# Altium footprint library Modbus.PcbLib: 19 footprints (part 1 of 2)
Each footprint in its own frame and in the unit in brackets; x right, y up, seen from the top. Pads: shape width x height; smd on the part's side, far side on the other; paste and mask are expansions set on the pad; w line width, h text height; cw(c..) or ccw(c..) is an arc to the next point about the centre after c.
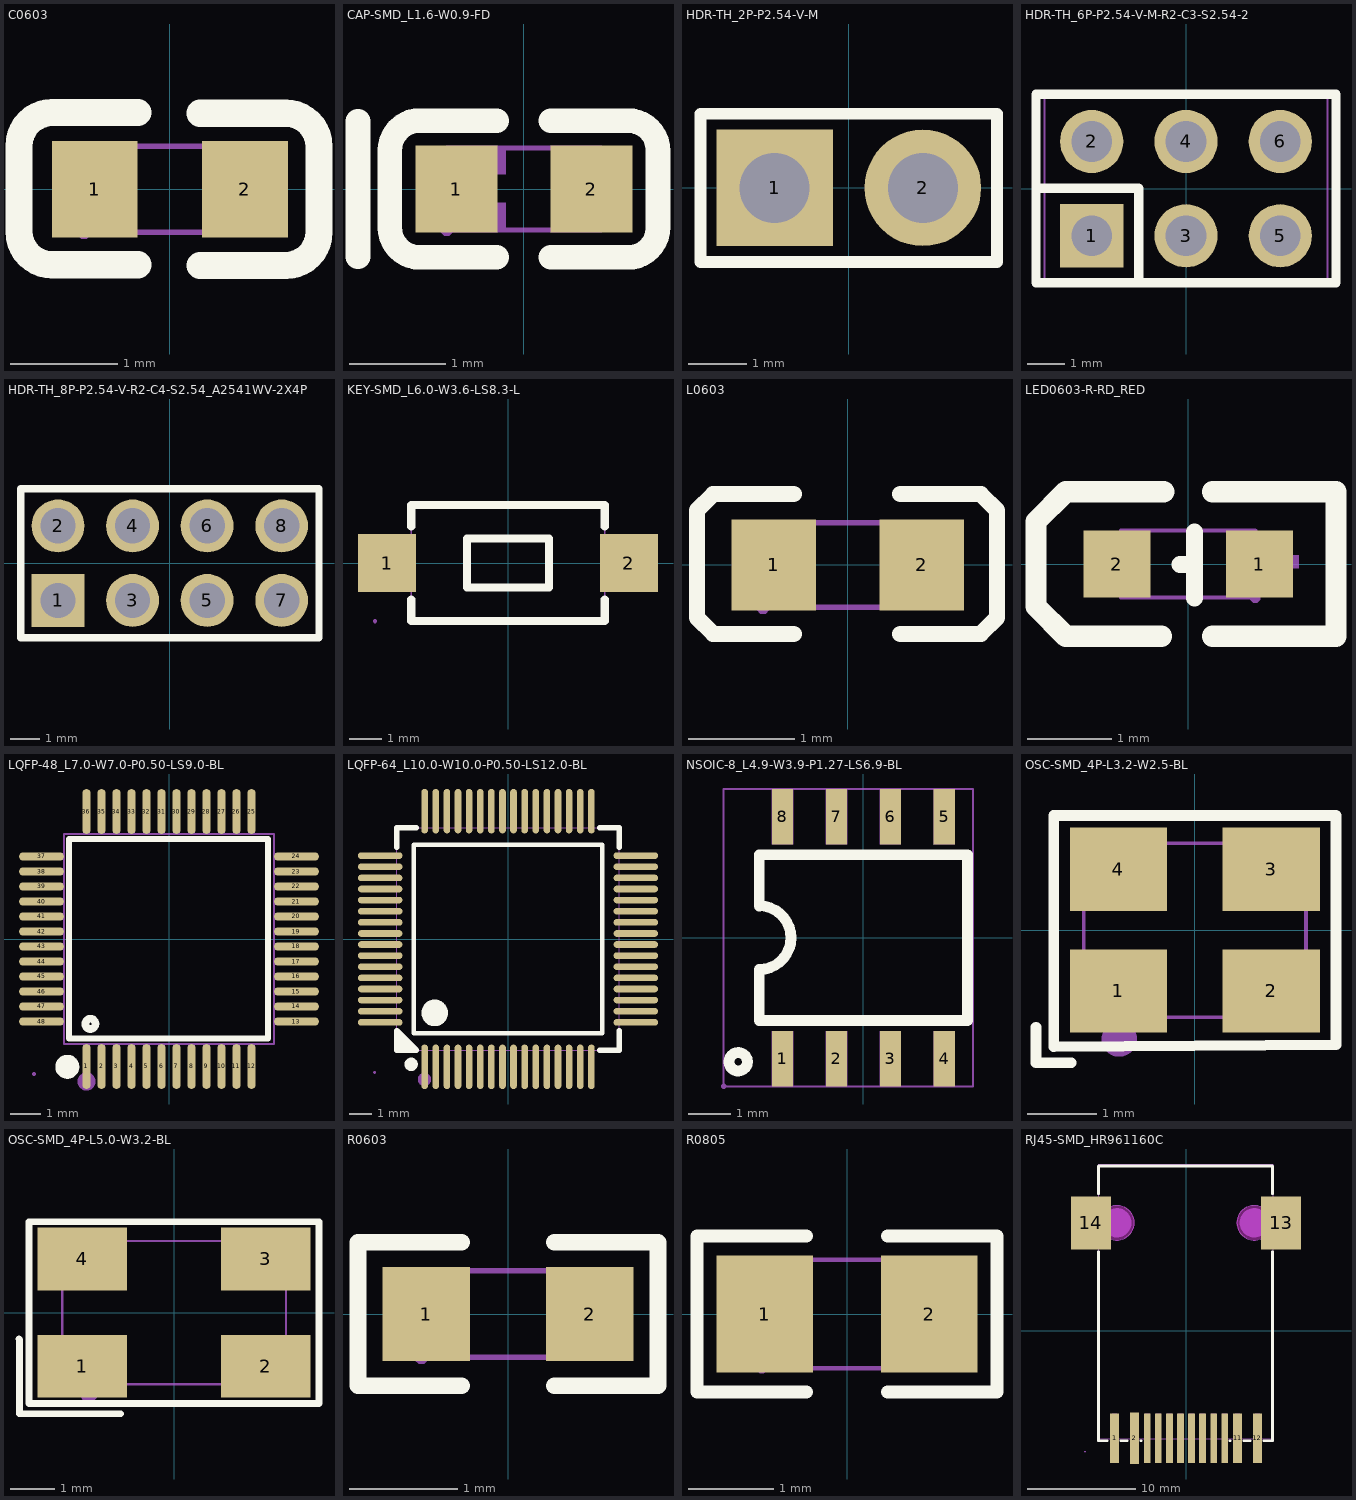
[diagram p0: the footprints below, top view; thin cyan lines are the x and y axes]

## C0603 [mm] "电容"
pads (2):
  rect 0.8x0.9 smd mask+0.051: 1(-0.7,0) 2(0.7,0)
Top Overlay:
  lines w0.254: -0.296,-0.704 -1.096,-0.704 cw(c-1.096,-0.394) -1.406,-0.394 -1.405,0.406 cw(c-1.096,0.406) -1.096,0.715 -0.296,0.715 ; 0.28,-0.71 1.08,-0.71 ccw(c1.08,-0.4) 1.39,-0.4 1.39,0.4 ccw(c1.08,0.4) 1.08,0.71 0.28,0.71
Mechanical 15:
  region: 0.8,-0.4 0.8,0.4 0.5,0.4 0.5,-0.4
  region: -0.8,-0.4 -0.8,0.4 -0.5,0.4 -0.5,-0.4
  region: -0.74,-0.4 -0.74,-0.375 -0.775,-0.34 -0.825,-0.34 -0.86,-0.375 -0.86,-0.4 -0.86,-0.425 -0.825,-0.46 -0.775,-0.46 -0.74,-0.425
  lines w0.051: -0.8,-0.4 0.8,-0.4 0.8,0.4 -0.8,0.4 -0.8,-0.4

## CAP-SMD_L1.6-W0.9-FD [mm] "钽电容"
pads (2):
  rect 0.85x0.9 smd mask+0.051: 1(-0.7,0) 2(0.7,0)
Top Overlay:
  lines w0.254: -1.72,-0.7 -1.72,0.7 ; -0.28,-0.71 -1.08,-0.71 cw(c-1.08,-0.4) -1.39,-0.4 -1.39,0.4 cw(c-1.08,0.4) -1.08,0.71 -0.28,0.71 ; 0.28,-0.71 1.08,-0.71 ccw(c1.08,-0.4) 1.39,-0.4 1.39,0.4 ccw(c1.08,0.4) 1.08,0.71 0.28,0.71
Mechanical 6:
  region: -1.038,0.119 -0.365,0.119 -0.365,-0.013 -1.038,-0.013 -1.038,0.015
  region: -0.788,-0.345 -0.788,0.328 -0.656,0.328 -0.656,-0.345 -0.684,-0.345
  region: 0.4,0.097 1.073,0.097 1.073,-0.035 0.4,-0.035 0.4,-0.007
  region: -0.31,0.444 -0.19,0.444 -0.19,0.155 -0.31,0.155
  region: -0.31,-0.144 -0.19,-0.144 -0.19,-0.433 -0.31,-0.433
Mechanical 15:
  region: -0.74,-0.425 -0.74,-0.4 -0.775,-0.365 -0.825,-0.365 -0.86,-0.4 -0.86,-0.425 -0.86,-0.45 -0.825,-0.485 -0.775,-0.485 -0.74,-0.45
  region: -0.8,0.275 -0.3,0.275 -0.3,-0.275 -0.8,-0.275
  region: 0.3,0.275 0.8,0.275 0.8,-0.275 0.3,-0.275
  lines w0.051: -0.8,-0.425 -0.8,0.425 0.8,0.425 0.8,-0.425 -0.8,-0.425

## HDR-TH_2P-P2.54-V-M [mm] "排针2p"
pads (2):
  rect 2x2 hole 1.2 mask+0.051: 1(-1.27,0)
  round 2 hole 1.2 mask+0.051: 2(1.27,0)
Top Overlay:
  lines w0.203: -2.54,-1.27 2.54,-1.27 2.54,1.27 -0.635,1.27 -2.54,1.27 -2.54,-1.27
Mechanical 15:
  region: -2.48,-1.25 -2.48,-1.225 -2.515,-1.19 -2.565,-1.19 -2.6,-1.225 -2.6,-1.25 -2.6,-1.275 -2.565,-1.31 -2.515,-1.31 -2.48,-1.275
  region: 0.95,0.32 1.59,0.32 1.59,-0.32 0.95,-0.32
  region: -1.59,0.32 -0.95,0.32 -0.95,-0.32 -1.59,-0.32
  lines w0.051: -2.54,-1.25 -2.54,1.25 2.54,1.25 2.54,-1.25 -2.54,-1.25

## HDR-TH_6P-P2.54-V-M-R2-C3-S2.54-2 [mm] "2.54*6"
pads (6):
  rect 1.7x1.7 hole 1.1 mask+0.051: 1(-2.54,-1.27)
  round 1.7 hole 1.1 mask+0.051: 2(-2.54,1.27) 3(0,-1.27) 4(0,1.27) 5(2.54,-1.27) 6(2.54,1.27)
Top Overlay:
  lines w0.254: -4.04,0.007 -1.27,0.007 -1.27,-2.54 ; -4.04,-2.54 -4.04,2.54 4.04,2.54 4.04,-2.54 -4.04,-2.54
Mechanical 15:
  region: 2.22,-0.95 2.86,-0.95 2.86,-1.59 2.22,-1.59
  region: 2.22,1.59 2.86,1.59 2.86,0.95 2.22,0.95
  region: -0.32,1.59 0.32,1.59 0.32,0.95 -0.32,0.95
  region: -0.32,-0.95 0.32,-0.95 0.32,-1.59 -0.32,-1.59
  region: -2.86,-0.95 -2.22,-0.95 -2.22,-1.59 -2.86,-1.59
  region: -2.86,1.59 -2.22,1.59 -2.22,0.95 -2.86,0.95
  region: -3.75,-2.5 -3.75,-2.475 -3.785,-2.44 -3.835,-2.44 -3.87,-2.475 -3.87,-2.5 -3.87,-2.525 -3.835,-2.56 -3.785,-2.56 -3.75,-2.525
  lines w0.051: -3.81,-2.5 3.81,-2.5 3.81,2.5 -3.81,2.5 -3.81,-2.5

## HDR-TH_8P-P2.54-V-R2-C4-S2.54_A2541WV-2X4P [mm] "2.54-2*4"
pads (8):
  rect 1.8x1.8 hole 1.2 mask+0.051: 1(-3.81,-1.27)
  round 1.8 hole 1.2 mask+0.051: 2(-3.81,1.27) 3(-1.27,-1.27) 4(-1.27,1.27) 5(1.27,-1.27) 6(1.27,1.27) 7(3.81,-1.27) 8(3.81,1.27)
Top Overlay:
  lines w0.254: -5.08,-2.54 -5.08,2.54 5.08,2.54 5.08,-2.54 -5.08,-2.54
Mechanical 15:
  region: -4.13,-0.95 -3.49,-0.95 -3.49,-1.59 -4.13,-1.59
  region: -4.13,1.59 -3.49,1.59 -3.49,0.95 -4.13,0.95
  region: -1.59,-0.95 -0.95,-0.95 -0.95,-1.59 -1.59,-1.59
  region: -1.59,1.59 -0.95,1.59 -0.95,0.95 -1.59,0.95
  region: 0.95,-0.95 1.59,-0.95 1.59,-1.59 0.95,-1.59
  region: 0.95,1.59 1.59,1.59 1.59,0.95 0.95,0.95
  region: 3.49,-0.95 4.13,-0.95 4.13,-1.59 3.49,-1.59
  region: 3.49,1.59 4.13,1.59 4.13,0.95 3.49,0.95
  region: -5.02,-2.54 -5.02,-2.515 -5.055,-2.48 -5.105,-2.48 -5.14,-2.515 -5.14,-2.54 -5.14,-2.565 -5.105,-2.6 -5.055,-2.6 -5.02,-2.565
  lines w0.051: -5.08,-2.54 5.08,-2.54 5.08,2.54 -5.08,2.54 -5.08,-2.54

## KEY-SMD_L6.0-W3.6-LS8.3-L [mm] "轻触开关"
pads (2):
  rect 1.8x1.8 smd mask+0.051: 1(-3.75,0) 2(3.75,0)
Top Overlay:
  lines w0.254: -3,-1.131 -3,-1.8 3,-1.8 3,-1.131 ; -3,1.131 -3,1.8 3,1.8 3,1.131 ; -1.27,-0.762 1.27,-0.762 1.27,0.762 -1.27,0.762 -1.27,-0.762
Mechanical 15:
  region: -4.065,-1.8 -4.065,-1.775 -4.1,-1.74 -4.15,-1.74 -4.185,-1.775 -4.185,-1.8 -4.185,-1.825 -4.15,-1.86 -4.1,-1.86 -4.065,-1.825
  region: 2.99,-0.5 2.99,0.5 3.735,0.5 3.735,-0.5
  region: 3.725,-0.5 3.725,0.5 4.125,0.5 4.125,-0.5
  region: -3.735,-0.5 -3.735,0.5 -2.99,0.5 -2.99,-0.5
  region: -4.125,-0.5 -4.125,0.5 -3.725,0.5 -3.725,-0.5
  lines w0.051: -3,-1.8 -3,1.8 3,1.8 3,-1.8 -3,-1.8

## L0603 [mm] "磁珠"
pads (2):
  rect 0.8x0.864 smd mask+0.051: 1(-0.7,0) 2(0.7,0)
Top Overlay:
  lines w0.152: -0.51,-0.651 -1.272,-0.651 -1.424,-0.499 -1.424,0.517 -1.272,0.67 -0.51,0.67 ; 0.496,-0.651 1.258,-0.651 1.411,-0.499 1.411,0.517 1.258,0.67 0.496,0.67
Top Paste:
  region: -0.252,0.143 -0.252,-0.134 -0.526,-0.427 -1.029,-0.427 -1.093,-0.363 -1.093,0.373 -1.029,0.437 -0.526,0.437
  region: 0.264,0.154 0.264,-0.122 0.538,-0.416 1.042,-0.416 1.106,-0.352 1.106,0.384 1.042,0.448 0.538,0.448
Mechanical 15:
  region: -0.74,-0.4 -0.74,-0.375 -0.775,-0.34 -0.825,-0.34 -0.86,-0.375 -0.86,-0.4 -0.86,-0.425 -0.825,-0.46 -0.775,-0.46 -0.74,-0.425
  region: 0.8,-0.4 0.5,-0.4 0.5,0.4 0.8,0.4
  region: -0.5,-0.4 -0.8,-0.4 -0.8,0.4 -0.5,0.4
  lines w0.051: -0.8,-0.4 0.8,-0.4 0.8,0.4 -0.8,0.4 -0.8,-0.4

## LED0603-R-RD_RED [mm]
pads (2):
  rect 0.8x0.8 smd mask+0.051: 1(0.851,0) 2(-0.851,0)
Top Overlay:
  lines w0.203: -0.099,-0.008 0.076,-0.008 ; 0.076,-0.406 0.076,0.381
  lines w0.254: -0.318,-0.864 -1.46,-0.864 -1.816,-0.508 -1.816,0.508 -1.46,0.864 -0.292,0.864 ; 0.292,-0.864 1.765,-0.864 1.765,0.864 0.292,0.864
Mechanical 6:
  region: 0.66,0.102 1.321,0.102 1.321,-0.051 0.66,-0.051
  region: 0.936,-0.275 0.936,0.385 1.088,0.385 1.088,-0.275
  region: -1.193,0.05 -0.533,0.05 -0.533,-0.103 -1.193,-0.103
Mechanical 15:
  region: 0.86,-0.4 0.86,-0.375 0.825,-0.34 0.775,-0.34 0.74,-0.375 0.74,-0.4 0.74,-0.425 0.775,-0.46 0.825,-0.46 0.86,-0.425
  region: 0.8,0.4 0.8,-0.4 0.5,-0.4 0.5,0.4
  region: -0.8,-0.4 -0.8,0.4 -0.5,0.4 -0.5,-0.4
  lines w0.051: -0.8,-0.4 0.8,-0.4 0.8,0.4 -0.8,0.4 -0.8,-0.4

## LQFP-48_L7.0-W7.0-P0.50-LS9.0-BL [mm] "W5500-以太网控制芯片"
pads (48):
  oval 0.27x1.5 smd mask+0.05: 1(-2.75,-4.25) 2(-2.25,-4.25) 3(-1.75,-4.25) 4(-1.25,-4.25) 5(-0.75,-4.25) 6(-0.25,-4.25) 7(0.25,-4.25) 8(0.75,-4.25) 9(1.25,-4.25) 10(1.75,-4.25) 11(2.25,-4.25) 12(2.75,-4.25) 25(2.75,4.25) 26(2.25,4.25) 27(1.75,4.25) 28(1.25,4.25) 29(0.75,4.25) 30(0.25,4.25) 31(-0.25,4.25) 32(-0.75,4.25) 33(-1.25,4.25) 34(-1.75,4.25) 35(-2.25,4.25) 36(-2.75,4.25)
  oval 1.5x0.27 smd mask+0.05: 13(4.25,-2.75) 14(4.25,-2.25) 15(4.25,-1.75) 16(4.25,-1.25) 17(4.25,-0.75) 18(4.25,-0.25) 19(4.25,0.25) 20(4.25,0.75) 21(4.25,1.25) 22(4.25,1.75) 23(4.25,2.25) 24(4.25,2.75) 37(-4.25,2.75) 38(-4.25,2.25) 39(-4.25,1.75) 40(-4.25,1.25) 41(-4.25,0.75) 42(-4.25,0.25) 43(-4.25,-0.25) 44(-4.25,-0.75) 45(-4.25,-1.25) 46(-4.25,-1.75) 47(-4.25,-2.25) 48(-4.25,-2.75)
Top Overlay:
  circle w0.254: c-2.62,-2.83 r0.17
  lines w0.2: -2.896,3.34 3.302,3.34 3.302,-3.315 -3.327,-3.315 -3.327,3.34 -2.565,3.34
  lines w0.4: -3.39,-4.06 ccw(c-3.389,-4.26) -3.387,-4.06
Mechanical 6:
  circle w0.3: c-2.75,-4.75 r0.15
Mechanical 15:
  drawing of 101 lines, arcs and shapes, not listed

## LQFP-64_L10.0-W10.0-P0.50-LS12.0-BL [mm] "单片机"
pads (64):
  oval 0.3x2 smd mask+0.051: 1(-3.75,-5.75) 2(-3.25,-5.75) 3(-2.75,-5.75) 4(-2.25,-5.75) 5(-1.75,-5.75) 6(-1.25,-5.75) 7(-0.75,-5.75) 8(-0.25,-5.75) 9(0.25,-5.75) 10(0.75,-5.75) 11(1.25,-5.75) 12(1.75,-5.75) 13(2.25,-5.75) 14(2.75,-5.75) 15(3.25,-5.75) 16(3.75,-5.75) 33(3.75,5.75) 34(3.25,5.75) 35(2.75,5.75) 36(2.25,5.75) 37(1.75,5.75) 38(1.25,5.75) 39(0.75,5.75) 40(0.25,5.75) 41(-0.25,5.75) 42(-0.75,5.75) 43(-1.25,5.75) 44(-1.75,5.75) 45(-2.25,5.75) 46(-2.75,5.75) 47(-3.25,5.75) 48(-3.75,5.75)
  oval 2x0.3 smd mask+0.051: 17(5.75,-3.75) 18(5.75,-3.25) 19(5.75,-2.75) 20(5.75,-2.25) 21(5.75,-1.75) 22(5.75,-1.25) 23(5.75,-0.75) 24(5.75,-0.25) 25(5.75,0.25) 26(5.75,0.75) 27(5.75,1.25) 28(5.75,1.75) 29(5.75,2.25) 30(5.75,2.75) 31(5.75,3.25) 32(5.75,3.75) 49(-5.75,3.75) 50(-5.75,3.25) 51(-5.75,2.75) 52(-5.75,2.25) 53(-5.75,1.75) 54(-5.75,1.25) 55(-5.75,0.75) 56(-5.75,0.25) 57(-5.75,-0.25) 58(-5.75,-0.75) 59(-5.75,-1.25) 60(-5.75,-1.75) 61(-5.75,-2.25) 62(-5.75,-2.75) 63(-5.75,-3.25) 64(-5.75,-3.75)
Top Overlay:
  region: -4.131,-5 -5,-4.131 -5,-5
  lines w0.2: -4.25,-4.25 -4.25,4.25 4.25,4.25 4.25,-4.25 -4.25,-4.25
  lines w0.254: -5,4.131 -5,5 -4.131,5 ; 4.131,-5 5,-5 5,-4.131 ; 4.131,5 5,5 5,4.131 ; -5,-4.131 -5,-4.131 ; -5,-4.131 -4.131,-5 -5,-5 -5,-4.131
  lines w0.3: -4.361,-5.49 ccw(c-4.36,-5.64) -4.359,-5.49
  lines w0.6: -3.299,-3.025 ccw(c-3.297,-3.325) -3.294,-3.025
Mechanical 6:
  circle w0.3: c-3.76,-6.32 r0.15
Mechanical 15:
  drawing of 133 lines, arcs and shapes, not listed

## NSOIC-8_L4.9-W3.9-P1.27-LS6.9-BL [mm] "RS485"
pads (8):
  rect 0.5x1.3 smd mask+0.051: 1(-1.905,-2.85) 2(-0.635,-2.85) 3(0.635,-2.85) 4(1.905,-2.85) 5(1.905,2.85) 6(0.635,2.85) 7(-0.635,2.85) 8(-1.905,2.85)
Top Overlay:
  circle w0.254: c-2.946,-2.921 r0.216
  lines w0.254: -2.451,-0.749 -2.451,-1.951 2.451,-1.951 2.451,1.951 -2.451,1.951 -2.451,0.749 ; -2.45,-0.751 ccw(c-2.454,0) -2.45,0.75
Mechanical 15:
  region: -1.656,2.2 -2.154,2.2 -2.154,3.5 -1.656,3.5
  region: -0.386,2.2 -0.884,2.2 -0.884,3.5 -0.386,3.5
  region: 0.884,2.2 0.386,2.2 0.386,3.5 0.884,3.5
  region: 2.154,2.2 1.656,2.2 1.656,3.5 2.154,3.5
  region: 2.154,-3.5 1.656,-3.5 1.656,-2.2 2.154,-2.2
  region: 0.884,-3.5 0.386,-3.5 0.386,-2.2 0.884,-2.2
  region: -0.386,-3.5 -0.884,-3.5 -0.884,-2.2 -0.386,-2.2
  region: -1.656,-3.5 -2.154,-3.5 -2.154,-2.2 -1.656,-2.2
  region: -3.228,-3.5 -3.228,-3.475 -3.264,-3.439 -3.315,-3.439 -3.35,-3.475 -3.35,-3.5 -3.35,-3.525 -3.315,-3.561 -3.264,-3.561 -3.228,-3.525
  lines w0.051: -3.289,-3.5 -3.289,3.5 2.578,3.5 2.578,-3.5 -3.289,-3.5

## OSC-SMD_4P-L3.2-W2.5-BL [mm] "25MHz晶振"
pads (4):
  rect 1.4x1.2 smd mask+0.051: 1(-1.1,-0.875) 2(1.1,-0.875) 3(1.1,0.875) 4(-1.1,0.875)
Top Overlay:
  lines w0.152: -2.286,-1.397 -2.286,-1.905 -1.778,-1.905 ; -2.029,-1.679 -2.029,1.651 2.032,1.651 2.032,0 2.032,-1.651 -2.029,-1.679
Mechanical 6:
  circle w0.254: c-1.088,-1.567 r0.127
  region: -1.486,-0.428 -1.45,-0.428 -1.45,-1.004 -1.486,-1.004
  region: -1.522,-0.428 -1.486,-0.428 -1.486,-1.004 -1.522,-1.004
  region: -1.558,-0.428 -1.522,-0.428 -1.522,-1.004 -1.558,-1.004
  region: -1.594,-0.464 -1.558,-0.464 -1.558,-1.004 -1.594,-1.004
  region: -1.63,-0.464 -1.594,-0.464 -1.594,-0.572 -1.63,-0.572
  region: -1.666,-0.5 -1.63,-0.5 -1.63,-0.608 -1.666,-0.608
  region: -1.702,-0.536 -1.666,-0.536 -1.666,-0.608 -1.702,-0.608
  region: -1.738,-0.536 -1.702,-0.536 -1.702,-0.608 -1.738,-0.608
Mechanical 15:
  region: -1.54,-1.25 -1.54,-1.225 -1.575,-1.19 -1.625,-1.19 -1.66,-1.225 -1.66,-1.25 -1.66,-1.275 -1.625,-1.31 -1.575,-1.31 -1.54,-1.275
  region: 0.6,1.249 1.5,1.249 1.5,0.449 0.6,0.449
  region: -1.5,1.249 -0.6,1.249 -0.6,0.449 -1.5,0.449
  region: -1.5,-0.449 -0.6,-0.449 -0.6,-1.249 -1.5,-1.249
  region: 0.6,-0.449 1.5,-0.449 1.5,-1.249 0.6,-1.249
  lines w0.051: -1.6,-1.25 -1.6,1.25 1.6,1.25 1.6,-1.25 -1.6,-1.25

## OSC-SMD_4P-L5.0-W3.2-BL [mm] "8MHz晶振"
pads (4):
  rect 1.999x1.4 smd mask+0.051: 1(-2.05,-1.199) 2(2.05,-1.199) 3(2.05,1.199) 4(-2.05,1.199)
Top Overlay:
  lines w0.152: -3.462,-0.589 -3.454,-0.599 -3.454,-2.258 -3.256,-2.258 -1.199,-2.258 ; -3.236,-2.029 -3.028,-2.029 3.236,-2.029 3.236,2.029 -3.236,2.029 -3.236,-2.029
Mechanical 6:
  circle w0.201: c-1.9,-1.801 r0.099
Mechanical 15:
  region: -2.438,-1.6 -2.438,-1.575 -2.474,-1.539 -2.525,-1.539 -2.56,-1.575 -2.56,-1.6 -2.56,-1.625 -2.525,-1.661 -2.474,-1.661 -2.438,-1.625
  region: -2.499,1.6 -1.3,1.6 -1.3,0.699 -2.499,0.699
  region: 1.3,1.6 2.499,1.6 2.499,0.699 1.3,0.699
  region: 1.3,-0.699 2.499,-0.699 2.499,-1.6 1.3,-1.6
  region: -2.499,-0.699 -1.3,-0.699 -1.3,-1.6 -2.499,-1.6
  lines w0.051: -2.499,-1.6 -2.499,1.6 2.499,1.6 2.499,-1.6 -2.499,-1.6

## R0603 [mm]
pads (2):
  rect 0.806x0.864 smd mask+0.051: 1(-0.753,0) 2(0.753,0)
Top Overlay:
  lines w0.152: -0.426,-0.661 -1.385,-0.661 -1.385,0.661 -0.426,0.661 ; 0.426,-0.661 1.385,-0.661 1.385,0.661 0.426,0.661
Top Paste:
  region: -0.355,0.4 -0.355,0.172 -0.735,0.172 -0.735,-0.158 -0.355,-0.158 -0.355,-0.4 -0.405,-0.45 -1.195,-0.45 -1.245,-0.4 -1.245,0.4 -1.195,0.45 -0.405,0.45
  region: 1.195,0.45 0.395,0.45 0.345,0.4 0.345,0.172 0.715,0.172 0.715,-0.158 0.345,-0.158 0.345,-0.4 0.395,-0.45 1.195,-0.45 1.245,-0.4 1.245,0.4
Mechanical 15:
  region: 0.8,-0.4 0.8,0.4 0.5,0.4 0.5,-0.4
  region: -0.8,-0.4 -0.8,0.4 -0.5,0.4 -0.5,-0.4
  region: -0.74,-0.4 -0.74,-0.375 -0.775,-0.34 -0.825,-0.34 -0.86,-0.375 -0.86,-0.4 -0.86,-0.425 -0.825,-0.46 -0.775,-0.46 -0.74,-0.425
  lines w0.051: -0.8,-0.4 0.8,-0.4 0.8,0.4 -0.8,0.4 -0.8,-0.4

## R0805 [mm]
pads (2):
  rect 1.133x1.377 smd mask+0.051: 1(-0.966,0) 2(0.966,0)
Top Overlay:
  lines w0.152: -0.476,-0.917 -1.761,-0.917 -1.761,0.917 -0.476,0.917 ; 0.476,-0.917 1.761,-0.917 1.761,0.917 0.476,0.917
Top Paste:
  region: -1.7,-0.64 -1.7,0.64 -1.65,0.69 -0.5,0.69 -0.45,0.64 -0.445,0.23 -0.895,0.23 -0.895,-0.22 -0.455,-0.22 -0.45,-0.64 -0.5,-0.69 -1.65,-0.69
  region: 0.45,-0.64 0.45,-0.22 0.895,-0.22 0.895,0.23 0.455,0.23 0.45,0.64 0.5,0.69 1.65,0.69 1.7,0.64 1.7,-0.64 1.65,-0.69 0.5,-0.69
Mechanical 15:
  region: -0.94,-0.637 -0.94,-0.613 -0.975,-0.577 -1.025,-0.577 -1.06,-0.613 -1.06,-0.637 -1.06,-0.662 -1.025,-0.697 -0.975,-0.697 -0.94,-0.662
  region: -1,-0.637 -1,0.637 -0.6,0.637 -0.6,-0.637
  region: 1,-0.637 1,0.637 0.6,0.637 0.6,-0.637
  lines w0.051: -1,-0.637 -1,0.637 1,0.637 1,-0.637 -1,-0.637

## RJ45-SMD_HR961160C [mm] "RJ45"
pads (14):
  rect 0.81x4.6 smd mask+0.051: 1(-6.61,-9.961) 11(4.77,-9.961) 12(6.61,-9.961)
  rect 0.81x4.77 smd mask+0.051: 2(-4.77,-9.961)
  rect 0.61x4.6 smd mask+0.051: 3(-3.57,-9.961) 4(-2.55,-9.961) 5(-1.53,-9.961) 6(-0.51,-9.961) 7(0.51,-9.961) 8(1.53,-9.961) 9(2.55,-9.961) 10(3.57,-9.961)
  rect 3.7x4.9 smd mask+0.051: 13(8.799,9.961) 14(-8.799,9.961)
Top Overlay:
  lines w0.254: -8.09,7.28 -8.09,-10.189 -7.284,-10.189 ; -8.09,12.642 -8.09,15.211 8.01,15.211 8.01,12.642 ; -6.012,-10.189 -5.446,-10.189 ; -4.174,-10.189 -4.15,-10.189 ; 4.078,-10.189 4.103,-10.189 ; 5.375,-10.189 5.942,-10.189 ; 7.214,-10.189 8.01,-10.189 8.01,7.28
Keep-Out Layer:
  board cut-out: -4.791,9.961 -4.791,10.119 -4.853,10.428 -4.973,10.719 -5.148,10.981 -5.371,11.204 -5.633,11.379 -5.924,11.5 -6.233,11.561 -6.549,11.561 -6.858,11.5 -7.149,11.379 -7.411,11.204 -7.634,10.981 -7.809,10.719 -7.93,10.428 -7.991,10.119 -7.991,9.961 -7.991,9.804 -7.93,9.495 -7.809,9.203 -7.634,8.941 -7.411,8.718 -7.149,8.543 -6.858,8.423 -6.549,8.361 -6.233,8.361 -5.924,8.423 -5.633,8.543 -5.371,8.718 -5.148,8.941 -4.973,9.203 -4.853,9.495 -4.791,9.804
  board cut-out: 7.909,9.961 7.909,10.119 7.847,10.428 7.727,10.719 7.552,10.981 7.329,11.204 7.067,11.379 6.776,11.5 6.467,11.561 6.151,11.561 5.842,11.5 5.551,11.379 5.289,11.204 5.066,10.981 4.891,10.719 4.77,10.428 4.709,10.119 4.709,9.961 4.709,9.804 4.77,9.495 4.891,9.203 5.066,8.941 5.289,8.718 5.551,8.543 5.842,8.423 6.151,8.361 6.467,8.361 6.776,8.423 7.067,8.543 7.329,8.718 7.552,8.941 7.727,9.203 7.847,9.495 7.909,9.804
Mechanical 1:
  circle w0.005: c-6.391,9.961 r1.6
  circle w0.005: c6.309,9.961 r1.6
Mechanical 6:
  circle w1.35: c-6.391,9.961 r0.675
  circle w1.35: c6.309,9.961 r0.675
Mechanical 15:
  region: -9.279,-11.211 -9.279,-11.186 -9.314,-11.151 -9.364,-11.151 -9.399,-11.186 -9.399,-11.211 -9.399,-11.236 -9.364,-11.271 -9.314,-11.271 -9.279,-11.236
  region: -9.339,11.861 -8.039,11.861 -8.039,8.061 -9.339,8.061
  region: 8.039,11.861 9.339,11.861 9.339,8.061 8.039,8.061
  region: 6.41,-7.711 6.81,-7.711 6.81,-11.211 6.41,-11.211
  region: 4.57,-7.711 4.97,-7.711 4.97,-11.211 4.57,-11.211
  region: 3.37,-7.711 3.77,-7.711 3.77,-11.211 3.37,-11.211
  region: 2.35,-7.711 2.75,-7.711 2.75,-11.211 2.35,-11.211
  region: 1.33,-7.711 1.73,-7.711 1.73,-11.211 1.33,-11.211
  region: 0.31,-7.711 0.71,-7.711 0.71,-11.211 0.31,-11.211
  region: -0.71,-7.711 -0.31,-7.711 -0.31,-11.211 -0.71,-11.211
  region: -1.73,-7.711 -1.33,-7.711 -1.33,-11.211 -1.73,-11.211
  region: -2.75,-7.711 -2.35,-7.711 -2.35,-11.211 -2.75,-11.211
  region: -3.77,-7.711 -3.37,-7.711 -3.37,-11.211 -3.77,-11.211
  region: -4.97,-7.711 -4.57,-7.711 -4.57,-11.211 -4.97,-11.211
  region: -6.81,-7.711 -6.41,-7.711 -6.41,-11.211 -6.81,-11.211
  lines w0.051: -8.05,-10 -8.05,15.4 8.05,15.4 8.05,-10 -8.05,-10